# Altium footprint library PLD_ALL.PcbLib: 1 footprints
Each footprint in its own frame and in the unit in brackets; x right, y up, seen from the top. Pads: shape width x height; smd on the part's side, far side on the other; paste and mask are expansions set on the pad; w line width, h text height; cw(c..) or ccw(c..) is an arc to the next point about the centre after c.
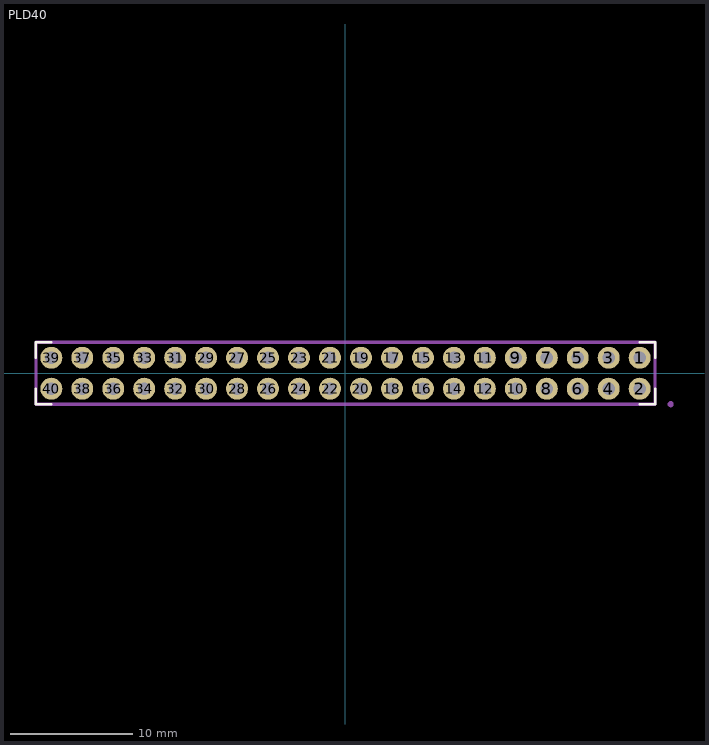
[diagram p0: the footprint, top view; thin cyan lines are the x and y axes]

## PLD40 [mm]
pads (40):
  round 1.8 hole 1: 1(24.13,1.27) 2(24.13,-1.27) 3(21.59,1.27) 4(21.59,-1.27) 5(19.05,1.27) 6(19.05,-1.27) 7(16.51,1.27) 8(16.51,-1.27) 9(13.97,1.27) 10(13.97,-1.27) 11(11.43,1.27) 12(11.43,-1.27) 13(8.89,1.27) 14(8.89,-1.27) 15(6.35,1.27) 16(6.35,-1.27) 17(3.81,1.27) 18(3.81,-1.27) 19(1.27,1.27) 20(1.27,-1.27) 21(-1.27,1.27) 22(-1.27,-1.27) 23(-3.81,1.27) 24(-3.81,-1.27) 25(-6.35,1.27) 26(-6.35,-1.27) 27(-8.89,1.27) 28(-8.89,-1.27) 29(-11.43,1.27) 30(-11.43,-1.27) 31(-13.97,1.27) 32(-13.97,-1.27) 33(-16.51,1.27) 34(-16.51,-1.27) 35(-19.05,1.27) 36(-19.05,-1.27) 37(-21.59,1.27) 38(-21.59,-1.27) 39(-24.13,1.27) 40(-24.13,-1.27)
Top Overlay:
  lines w0.2: -25.4,-1.27 -25.4,-2.54 -24.13,-2.54 ; -25.4,1.27 -25.4,2.54 -24.13,2.54 ; 24.13,-2.54 25.4,-2.54 25.4,-1.27 ; 24.13,2.54 25.4,2.54 25.4,1.27
Mechanical 13:
  circle w0.254: c26.67,-2.54 r0.125
  lines w0.254: -25.4,-2.54 -25.4,2.54 25.4,2.54 25.4,-2.54 -25.4,-2.54
  text ".Designator" at 16.51,3.81 h2.15
3D body "User Library-PLS-1.STEP": height 8.44, standoff -3, extent -7.62,-2.54 -5.08,0
3D body "User Library-PLS-1.STEP": height 8.44, standoff -3, extent 22.855,0 25.395,2.54
3D body "User Library-PLS-1.STEP": height 8.44, standoff -3, extent 22.855,-2.54 25.395,0
3D body "User Library-PLS-1.STEP": height 8.44, standoff -3, extent 20.315,0 22.855,2.54
3D body "User Library-PLS-1.STEP": height 8.44, standoff -3, extent 20.315,-2.54 22.855,0
3D body "User Library-PLS-1.STEP": height 8.44, standoff -3, extent 17.775,0 20.315,2.54
3D body "User Library-PLS-1.STEP": height 8.44, standoff -3, extent 17.775,-2.54 20.315,0
3D body "User Library-PLS-1.STEP": height 8.44, standoff -3, extent 15.235,0 17.775,2.54
3D body "User Library-PLS-1.STEP": height 8.44, standoff -3, extent 15.235,-2.54 17.775,0
3D body "User Library-PLS-1.STEP": height 8.44, standoff -3, extent 12.695,0 15.235,2.54
3D body "User Library-PLS-1.STEP": height 8.44, standoff -3, extent 12.695,-2.54 15.235,0
3D body "User Library-PLS-1.STEP": height 8.44, standoff -3, extent 10.155,0 12.695,2.54
3D body "User Library-PLS-1.STEP": height 8.44, standoff -3, extent 10.155,-2.54 12.695,0
3D body "User Library-PLS-1.STEP": height 8.44, standoff -3, extent 7.615,0 10.155,2.54
3D body "User Library-PLS-1.STEP": height 8.44, standoff -3, extent 7.615,-2.54 10.155,0
3D body "User Library-PLS-1.STEP": height 8.44, standoff -3, extent 5.075,0 7.615,2.54
3D body "User Library-PLS-1.STEP": height 8.44, standoff -3, extent 5.075,-2.54 7.615,0
3D body "User Library-PLS-1.STEP": height 8.44, standoff -3, extent -25.4,-2.54 -22.86,0
3D body "User Library-PLS-1.STEP": height 8.44, standoff -3, extent -25.4,0 -22.86,2.54
3D body "User Library-PLS-1.STEP": height 8.44, standoff -3, extent -22.86,-2.54 -20.32,0
3D body "User Library-PLS-1.STEP": height 8.44, standoff -3, extent -22.86,0 -20.32,2.54
3D body "User Library-PLS-1.STEP": height 8.44, standoff -3, extent -20.32,-2.54 -17.78,0
3D body "User Library-PLS-1.STEP": height 8.44, standoff -3, extent -20.32,0 -17.78,2.54
3D body "User Library-PLS-1.STEP": height 8.44, standoff -3, extent -17.78,-2.54 -15.24,0
3D body "User Library-PLS-1.STEP": height 8.44, standoff -3, extent -17.78,0 -15.24,2.54
3D body "User Library-PLS-1.STEP": height 8.44, standoff -3, extent -15.24,-2.54 -12.7,0
3D body "User Library-PLS-1.STEP": height 8.44, standoff -3, extent -15.24,0 -12.7,2.54
3D body "User Library-PLS-1.STEP": height 8.44, standoff -3, extent -12.7,-2.54 -10.16,0
3D body "User Library-PLS-1.STEP": height 8.44, standoff -3, extent -12.7,0 -10.16,2.54
3D body "User Library-PLS-1.STEP": height 8.44, standoff -3, extent -10.16,-2.54 -7.62,0
3D body "User Library-PLS-1.STEP": height 8.44, standoff -3, extent -10.16,0 -7.62,2.54
3D body "User Library-PLS-1.STEP": height 8.44, standoff -3, extent -7.62,0 -5.08,2.54
3D body "User Library-PLS-1.STEP": height 8.44, standoff -3, extent -5.08,-2.54 -2.54,0
3D body "User Library-PLS-1.STEP": height 8.44, standoff -3, extent -5.08,0 -2.54,2.54
3D body "User Library-PLS-1.STEP": height 8.44, standoff -3, extent -2.54,-2.54 0,0
3D body "User Library-PLS-1.STEP": height 8.44, standoff -3, extent -2.54,0 0,2.54
3D body "User Library-PLS-1.STEP": height 8.44, standoff -3, extent 0,-2.54 2.54,0
3D body "User Library-PLS-1.STEP": height 8.44, standoff -3, extent 0,0 2.54,2.54
3D body "User Library-PLS-1.STEP": height 8.44, standoff -3, extent 2.54,-2.54 5.08,0
3D body "User Library-PLS-1.STEP": height 8.44, standoff -3, extent 2.54,0 5.08,2.54